# EAGLE library part STM32F072CBT7 (library circuit_tree)
IC
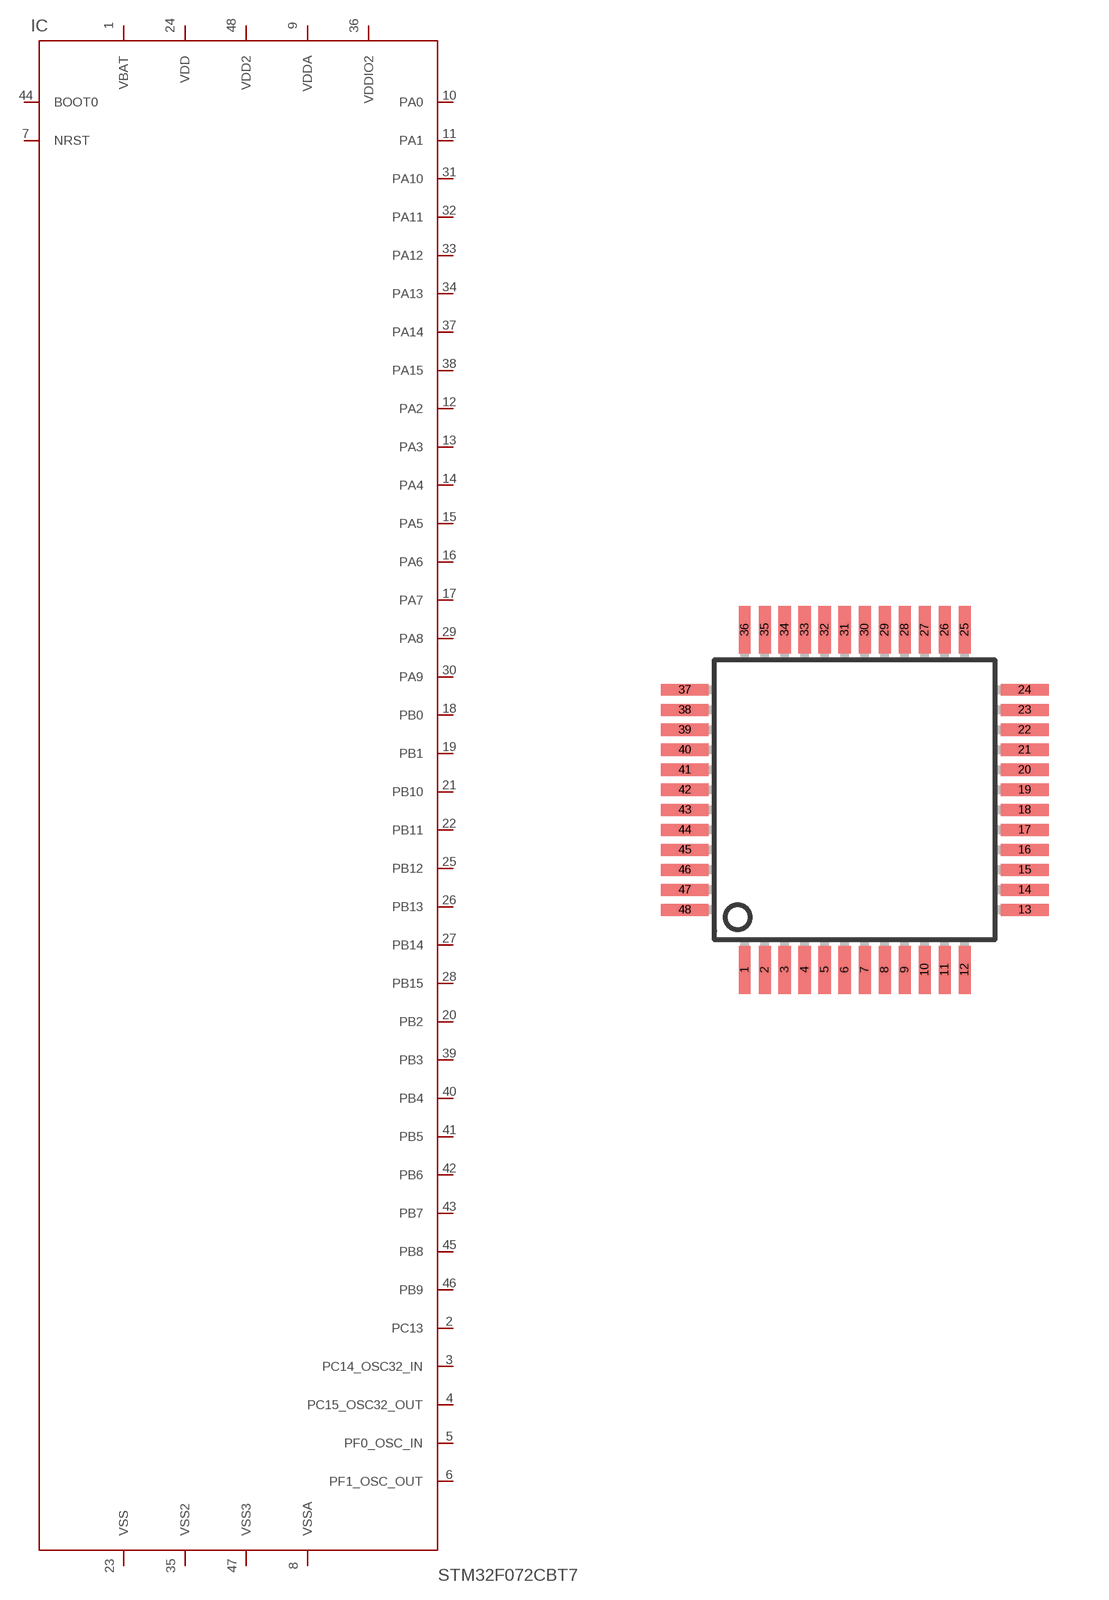
[diagram p2: symbol with the pads of LQFP48; footprint LQFP48]

Designator prefix IC

## STM32F072CBT7  [LQFP48]
1  VBAT  pas
2  PC13  pas
3  PC14_OSC32_IN  pas
4  PC15_OSC32_OUT  pas
5  PF0_OSC_IN  pas
6  PF1_OSC_OUT  pas
7  NRST  pas
8  VSSA  pas
9  VDDA  pas
10  PA0  pas
11  PA1  pas
12  PA2  pas
13  PA3  pas
14  PA4  pas
15  PA5  pas
16  PA6  pas
17  PA7  pas
18  PB0  pas
19  PB1  pas
20  PB2  pas
21  PB10  pas
22  PB11  pas
23  VSS  pas
24  VDD  pas
25  PB12  pas
26  PB13  pas
27  PB14  pas
28  PB15  pas
29  PA8  pas
30  PA9  pas
31  PA10  pas
32  PA11  pas
33  PA12  pas
34  PA13  pas
35  VSS2  pas
36  VDDIO2  pas
37  PA14  pas
38  PA15  pas
39  PB3  pas
40  PB4  pas
41  PB5  pas
42  PB6  pas
43  PB7  pas
44  BOOT0  pas
45  PB8  pas
46  PB9  pas
47  VSS3  pas
48  VDD2  pas

## Footprint LQFP48 (pad centres in mm)
LQFP48 7 x 7 mm, 48-pin low-profile quad flat package
smd 0.3 x 1.2: 1 -2.75,-4.25; 2 -2.25,-4.25; 3 -1.75,-4.25; 4 -1.25,-4.25; 5 -0.75,-4.25; 6 -0.25,-4.25; 7 0.25,-4.25; 8 0.75,-4.25; 9 1.25,-4.25; 10 1.75,-4.25; 11 2.25,-4.25; 12 2.75,-4.25; 25 2.75,4.25; 26 2.25,4.25; 27 1.75,4.25; 28 1.25,4.25; 29 0.75,4.25; 30 0.25,4.25; 31 -0.25,4.25; 32 -0.75,4.25; 33 -1.25,4.25; 34 -1.75,4.25; 35 -2.25,4.25; 36 -2.75,4.25
smd 1.2 x 0.3: 13 4.25,-2.75; 14 4.25,-2.25; 15 4.25,-1.75; 16 4.25,-1.25; 17 4.25,-0.75; 18 4.25,-0.25; 19 4.25,0.25; 20 4.25,0.75; 21 4.25,1.25; 22 4.25,1.75; 23 4.25,2.25; 24 4.25,2.75; 37 -4.25,2.75; 38 -4.25,2.25; 39 -4.25,1.75; 40 -4.25,1.25; 41 -4.25,0.75; 42 -4.25,0.25; 43 -4.25,-0.25; 44 -4.25,-0.75; 45 -4.25,-1.25; 46 -4.25,-1.75; 47 -4.25,-2.25; 48 -4.25,-2.75